# Altium schematic symbol library 59S20X-400T5-Z.SchLib: 1 symbol
Pins are listed as number, name and electrical type; pins without a type are passive.

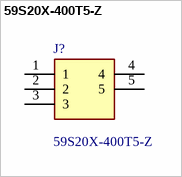
[diagram p0: symbol 59S20X-400T5-Z]

## 59S20X-400T5-Z
designator J?
RIGHT ANGLE PLUG PCB WITH HOUSING  + 105 C  - 40 C; Manufacturer_Name: Rosenberger; Geometry.Height: 13.05mm; Mouser Part Number: 476-59S20X-400T5-Z; Mouser Price/Stock: https://www.mouser.co.uk/ProductDetail/Rosenberger/59S20X-400T5-Z?qs=vvQtp7zwQdPV7Wq24wX2xA%3D%3D; Manufacturer_Part_Number: 59S20X-400T5-Z; Datasheet Link: https://products.rosenberger.com/_ocassets/db/59S20X-400T5-Y.pdf
footprint 59S20X400T5Z
pins: 1, 2, 3, 4, 5